# Altium footprint library PCB - SWITCHES - CAS-D20B1.PcbLib: 1 footprints
Each footprint in its own frame and in the unit in brackets; x right, y up, seen from the top. Pads: shape width x height; smd on the part's side, far side on the other; paste and mask are expansions set on the pad; w line width, h text height; cw(c..) or ccw(c..) is an arc to the next point about the centre after c.
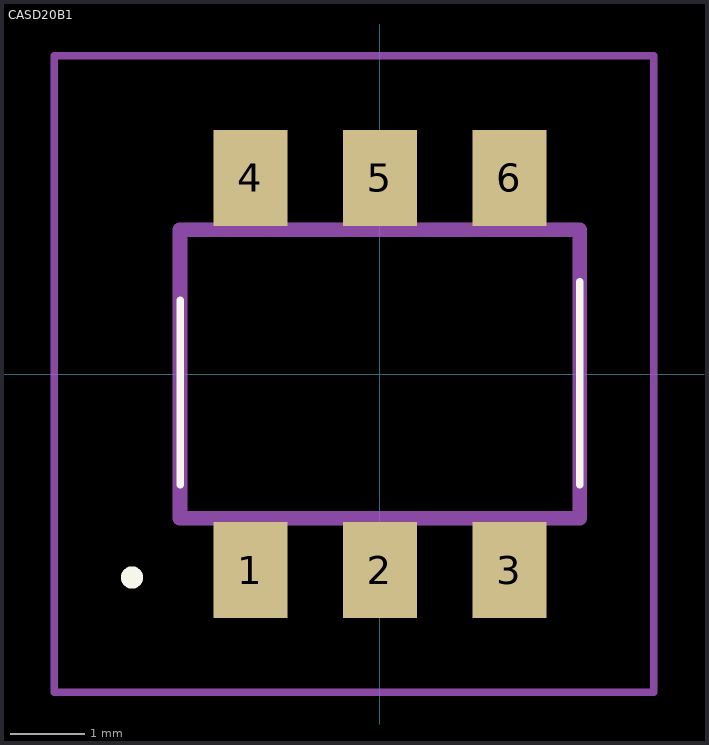
[diagram p0: the footprint, top view; thin cyan lines are the x and y axes]

## CASD20B1 [mm]
pads (6):
  rect 1x1.3 smd: 1(-1.75,-2.65) 2(0,-2.65) 3(1.75,-2.65) 4(-1.75,2.65) 5(0,2.65) 6(1.75,2.65)
Top Overlay:
  lines w0.1: -2.7,-1.5 -2.7,1 -2.7,-1.5 ; 2.7,-1.5 2.7,1.25 2.7,-1.5
  lines w0.2: -3.4,-2.75 ccw(c-3.35,-2.75) -3.3,-2.75 ; -3.4,-2.75 cw(c-3.35,-2.75) -3.3,-2.75 ; -3.4,-2.75 ccw(c-3.35,-2.75) -3.3,-2.75
Top Assembly:
  lines w0.2: -2.7,-1.95 -2.7,1.95 2.7,1.95 2.7,-1.95 -2.7,-1.95
Top Courtyard:
  lines w0.1: -4.4,-4.3 -4.4,4.3 3.7,4.3 3.7,-4.3 -4.4,-4.3
Top Designator:
  text ".Designator" at -4.191,3.889 h1
Top Value (Mech13):
  text ".Value" at 0.254,0.254 h1
3D body "CAS-220B1.stp": height 2.5, standoff 0, extent -2.7,-2.8 2.7,2.8